# Altium schematic symbol library SCH.SCHLIB: 63 symbols (part 1 of 2)
Pins are listed as number, name and electrical type; pins without a type are passive.

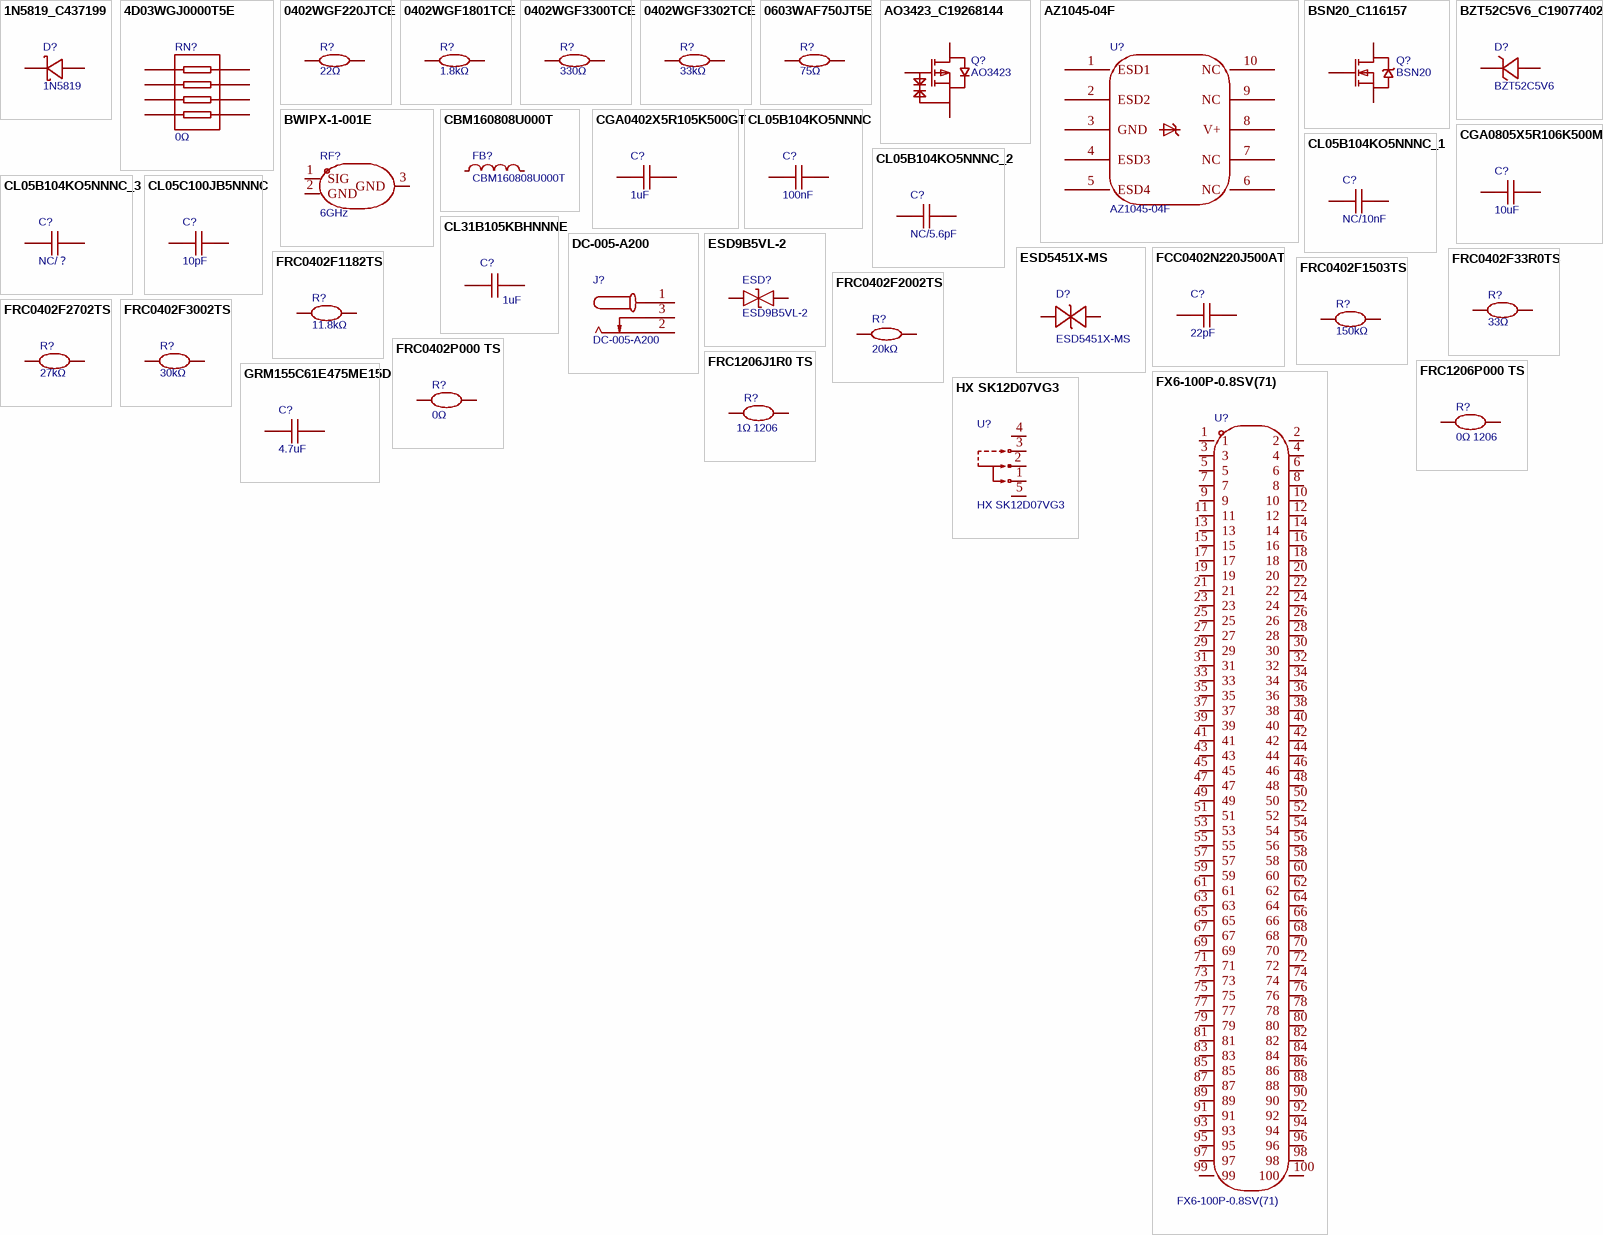
[diagram p0: symbols 1N5819_C437199 to HX SK12D07VG3]

## 1N5819_C437199
designator D?, comment 1N5819
正向压降(Vf):500mV@1A;直流反向耐压(Vr):40V;整流电流:1A;; Manufacturer: KEXIN(科信); Symbol: 1N5819_C437199; AddInBom: yes; ModelId: a2d22152f8d5421c8e96dbd56af7c345聨0819f05c4eef4c71ace90d822a990e87; ModelName: SMA_L4.4-W2.6-LS5.0-RD; ModelTransform: 204.724,98.425,0,0,0,0,0,0,0; Voltage - DC Reverse(Vr): 40V; Current - Rectified: 1A; Operating Junction Temperature Range: -60℃~+125℃; Non-Repetitive Peak Forward Surge Current: 40A; Device: 1N5819_C437199; LCSC Part Name: KEXIN(科信)原型号 SS14,后续变更为 1N5819，丝印不变。 电压:40V 电流:1A; SupplierPart: C437199; ManufacturerPart: 1N5819; Supplier Footprint: DO-214AC(SMA); JLCPCB Part Class: Extended Part; Datasheet: https://item.szlcsc.com/datasheet/1N5819/435098.html; Supplier: LCSC; ConvertToPcb: yes; FootprintName: SMA_L4.4-W2.6-LS5.0-RD; Voltage - Forward(Vf@If): 500mV@1A
footprint SMA_L4.4-W2.6-LS5.0-RD
pins: 1 C, 2 A

## 4D03WGJ0000T5E
designator RN?, comment 0Ω
电阻器数:4;阻值:0Ω;精度:±5%;单个元件功率:62.5mW;温度系数:±400ppm/℃;; Manufacturer: UNI-ROYAL(厚声); Symbol: 4D03WGJ0000T5E; AddInBom: yes; ModelId: edf39f9a2dca4b9a94267f442dd4f95a聨0819f05c4eef4c71ace90d822a990e87; ModelName: R0603-8P_L3.2-W1.6-H0.6; ModelTransform: 125.984,62.992,0,0,0,0,0,0,0; Number of Resistors: 4; Tolerance: ±5%; Power(Watts): 62.5mW; Device: 4D03WGJ0000T5E; LCSC Part Name: 0Ω ±5%; SupplierPart: C1952; ManufacturerPart: 4D03WGJ0000T5E; Supplier Footprint: 0603x4; JLCPCB Part Class: Extended Part; Datasheet: https://item.szlcsc.com/datasheet/4D03WGJ0000T5E/2304.html; Supplier: LCSC; ConvertToPcb: yes; FootprintName: RES-ARRAY-SMD_0603-8P-L3.2-W1.6-BL; Value: 0Ω; Temperature Coefficient: ±400ppm/℃; Number of Pins: 8
footprint RES-ARRAY-SMD_0603-8P-L3.2-W1.6-BL
pins: 1, 2, 3, 4, 5, 6, 7, 8

## 0402WGF220JTCE
designator R?, comment 22Ω
电阻类型:厚膜电阻;阻值:22Ω;精度:±1%;功率:62.5mW;最大工作电压:50V;温度系数:±100ppm/℃;; Manufacturer: UNI-ROYAL(厚声); Symbol: 0402WGF220JTCE; AddInBom: yes; ModelId: 98c88bc2b9094f218f3a3e30a7012738聨0819f05c4eef4c71ace90d822a990e87; ModelName: R0402_L1.0-W0.5-H0.4; ModelTransform: 39.37,19.685,0,0,0,0,0,0,0; Tolerance: ±1%; Power(Watts): 62.5mW; Overload Voltage (Max): 50V; Device: 0402WGF220JTCE; LCSC Part Name: 22Ω ±1% 62.5mW 厚膜电阻; SupplierPart: C25092; ManufacturerPart: 0402WGF220JTCE; Supplier Footprint: 0402; JLCPCB Part Class: Basic Part; Datasheet: https://atta.szlcsc.com/upload/public/pdf/source/20200306/C422600_1E6D84923E4A46A82E41ADD87F860B5C.pdf; Supplier: LCSC; ConvertToPcb: yes; FootprintName: R0402; Type: 厚膜电阻; Value: 22Ω; Temperature Coefficient: ±100ppm/℃; Operating Temperature Range: -55℃~+155℃
footprint R0402
pins: 1, 2

## 0402WGF1801TCE
designator R?, comment 1.8kΩ
电阻类型:厚膜电阻;阻值:1.8kΩ;精度:±1%;功率:62.5mW;工作电压:50V;温度系数:±100ppm/℃;; Manufacturer: UNI-ROYAL(厚声); Symbol: 0402WGF1801TCE; 3D Model: 98c88bc2b9094f218f3a3e30a7012738聨0819f05c4eef4c71ace90d822a990e87; 3D Model Transform: 39.37,19.685,0,0,0,0,0,0,0; Tolerance: ±1%; Power(Watts): 62.5mW; Voltage-Supply(Max): 50V; AddInBom: yes; ModelName: R0402_L1.0-W0.5-H0.4; Device: 0402WGF1801TCE; LCSC Part Name: 1.8kΩ ±1% 62.5mW 厚膜电阻; Supplier Part: C25871; Manufacturer Part: 0402WGF1801TCE; Supplier Footprint: 0402; JLCPCB Part Class: Extended Part; Datasheet: https://item.szlcsc.com/datasheet/0402WGF1801TCE/26614.html; Supplier: LCSC; Type: 厚膜电阻; Value: 1.8kΩ; Temperature Coefficient: ±100ppm/℃; Operating Temperature: -55℃~+155℃; ConvertToPcb: yes; FootprintName: R0402
footprint R0402
3D model R0402_L1.0-W0.5-H0.4
pins: 1, 2

## 0402WGF3300TCE
designator R?, comment 330Ω
电阻类型:厚膜电阻;阻值:330Ω;精度:±1%;功率:62.5mW;工作电压:50V;温度系数:±100ppm/℃;; Manufacturer: UNI-ROYAL(厚声); Symbol: 0402WGF3300TCE; 3D Model: 98c88bc2b9094f218f3a3e30a7012738聨0819f05c4eef4c71ace90d822a990e87; 3D Model Transform: 39.37,19.685,0,0,0,0,0,0,0; Tolerance: ±1%; Power(Watts): 62.5mW; Voltage-Supply(Max): 50V; AddInBom: yes; ModelName: R0402_L1.0-W0.5-H0.4; Device: 0402WGF3300TCE; LCSC Part Name: 330Ω ±1% 62.5mW 厚膜电阻; Supplier Part: C25104; Manufacturer Part: 0402WGF3300TCE; Supplier Footprint: 0402; JLCPCB Part Class: Basic Part; Datasheet: https://item.szlcsc.com/datasheet/0402WGF3300TCE/25847.html; Supplier: LCSC; Type: 厚膜电阻; Value: 330Ω; Temperature Coefficient: ±100ppm/℃; Operating Temperature: -55℃~+155℃; ConvertToPcb: yes; FootprintName: R0402
footprint R0402
3D model R0402_L1.0-W0.5-H0.4
pins: 1, 2

## 0402WGF3302TCE
designator R?, comment 33kΩ
电阻类型:厚膜电阻;阻值:33kΩ;精度:±1%;功率:62.5mW;最大工作电压:50V;温度系数:±100ppm/℃;; Manufacturer: UNI-ROYAL(厚声); Symbol: 0402WGF3302TCE; 3D Model: 98c88bc2b9094f218f3a3e30a7012738聨0819f05c4eef4c71ace90d822a990e87; 3D Model Transform: 39.37,19.685,0,0,0,0,0,0,0; Tolerance: ±1%; Power(Watts): 62.5mW; Overload Voltage (Max): 50V; AddInBom: yes; ModelName: R0402_L1.0-W0.5-H0.4; Device: 0402WGF3302TCE; LCSC Part Name: 33kΩ ±1% 62.5mW 厚膜电阻; Supplier Part: C25779; Manufacturer Part: 0402WGF3302TCE; Supplier Footprint: 0402; JLCPCB Part Class: Basic Part; Datasheet: https://atta.szlcsc.com/upload/public/pdf/source/20200306/C422600_1E6D84923E4A46A82E41ADD87F860B5C.pdf; Supplier: LCSC; Type: 厚膜电阻; Value: 33kΩ; Temperature Coefficient: ±100ppm/℃; Operating Temperature Range: -55℃~+155℃; ConvertToPcb: yes; FootprintName: R0402
footprint R0402
3D model R0402_L1.0-W0.5-H0.4
pins: 1, 2

## 0603WAF750JT5E
designator R?, comment 75Ω
电阻类型:厚膜电阻;阻值:75Ω;精度:±1%;功率:100mW;工作电压:75V;温度系数:±100ppm/℃;; Manufacturer: UNI-ROYAL(厚声); Symbol: 0603WAF750JT5E; 3D Model: fc143cca1e79419f9cd78b61e9279f08聨0819f05c4eef4c71ace90d822a990e87; 3D Model Transform: 31.8897,63.7794,0,90,0,0,0,0,0; Tolerance: ±1%; Power(Watts): 100mW; Voltage-Supply(Max): 75V; AddInBom: yes; ModelName: R0603; Device: 0603WAF750JT5E; LCSC Part Name: 75Ω ±1% 100mW 厚膜电阻; Supplier Part: C4275; Manufacturer Part: 0603WAF750JT5E; Supplier Footprint: 0603; JLCPCB Part Class: Basic Part; Datasheet: https://item.szlcsc.com/datasheet/0603WAF750JT5E/4682.html; Supplier: LCSC; Type: 厚膜电阻; Value: 75Ω; Temperature Coefficient: ±100ppm/℃; Operating Temperature: -55℃~+155℃; ConvertToPcb: yes; FootprintName: R0603
footprint R0603
3D model R0603
pins: 1, 2

## AO3423_C19268144
designator Q?, comment AO3423
漏源电压(Vdss):20V;连续漏极电流(Id):3A;导通电阻(RDS(on)@Vgs,Id):125mΩ@2.5V,2A;功率(Pd):1.55W;阈值电压(Vgs(th)@Id):1.1V@3A;; Manufacturer: TECH PUBLIC(台舟); Symbol: AO3423_C19268144; AddInBom: yes; ModelId: c62791f0466c4ae2a892c056b845b0ca聨0819f05c4eef4c71ace90d822a990e87; ModelName: SOT-23-3P_L2.9-W1.3-H1.0-LS2.4-P0.95; ModelTransform: 98.425,114.173,0,180,0,0,0.0005,-0.0005,0; Drain Source Voltage (Vdss): 20V; Continuous Drain Current (Id): 3A; Power Dissipation (Pd): 1.55W; Input Capacitance (Ciss@Vds): 520pF@16V; Reverse Transfer Capacitance (Crss@Vds): 80pF@16V; Device: AO3423_C19268144; LCSC Part Name: 耐压:20V 电流:3A; SupplierPart: C19268144; ManufacturerPart: AO3423; Supplier Footprint: SOT-23; JLCPCB Part Class: Extended Part; Datasheet: https://atta.szlcsc.com/upload/public/pdf/source/20231201/DEC71D908761248026A69CF2D48D0084.pdf; Supplier: LCSC; ConvertToPcb: yes; FootprintName: SOT-23-3_L2.9-W1.3-P1.90-LS2.4-BR-3; Drain Source On Resistance (RDS(on)@Vgs,Id): 125mΩ@2.5V,2A; Gate Threshold Voltage (Vgs(th)@Id): 1.1V@3A; Operating Temperature: -55℃~+150℃
footprint SOT-23-3_L2.9-W1.3-P1.90-LS2.4-BR-3
pins: 1 G, 2 S, 3 D

## AZ1045-04F
designator U?
Relevance: []; componentDisplayMode: -1; AddInBom: yes; OriginFootprint: DFN-10_2r50x1r00-H0r53-P0r50_B; Symbol: AZ1045-04F; Device: AZ1045-04F; FootprintName: DFN2510-10_L2.5-W1.0-P0.50-BL; ConvertToPcb: yes
footprint DFN2510-10_L2.5-W1.0-P0.50-BL
pins: 1 ESD1, 2 ESD2, 3 GND, 4 ESD3, 5 ESD4, 6 NC, 7 NC, 8 V+, 9 NC, 10 NC

## BSN20_C116157
designator Q?, comment BSN20
数量:1个N沟道;漏源电压(Vdss):50V;连续漏极电流(Id):100mA;导通电阻(RDS(on)):10Ω@2.75V,0.2A;耗散功率(Pd):-;阈值电压(Vgs(th)):1.5V@250uA;; Manufacturer: SHIKUES(时科); Device: BSN20_C116157; 3D Model: 89cb27a44ab2466697082bb9fd73a7d0聨0819f05c4eef4c71ace90d822a990e87; 3D Model Transform: 114.173,110.236,0,90,0,0,0,0,0; Number: 1个N沟道; Drain to Source Voltage: 50V; Current - Continuous Drain(Id): 100mA; Input Capacitance(Ciss): 40pF; Reverse Transfer Capacitance (Crss@Vds): 10pF; Type: N沟道; Output Capacitance(Coss): 15pF; AddInBom: yes; ModelName: SOT-23-3L_L2.9-W1.6-H1.1-LS2.8-P0.95; Symbol: BSN20; LCSC Part Name: 1个N沟道 耐压:50V 电流:0.1A; Supplier Part: C116157; Manufacturer Part: BSN20; Supplier Footprint: SOT-23; JLCPCB Part Class: Extended Part; Datasheet: https://item.szlcsc.com/datasheet/BSN20/117410.html; Supplier: LCSC; RDS(on): 10Ω@2.75V,0.2A; Pd - Power Dissipation: -; Gate Threshold Voltage (Vgs(th)): 1.5V@250uA; ConvertToPcb: yes; FootprintName: SOT-23-3_L2.9-W1.6-P1.90-LS2.8-BR
footprint SOT-23-3_L2.9-W1.6-P1.90-LS2.8-BR
3D model SOT-23-3L_L2.9-W1.6-H1.1-LS2.8-P0.95
pins: 1 G, 2 S, 3 D

## BWIPX-1-001E
designator RF?, comment 6GHz
连接器类型:板端;接口类型:内针;端口数量:1;接口直径:2mm;接口长度/高度:1.25mm;频率:6GHz;射频系列:IPEX;阻抗:50Ω;样式:-;工作温度:-40℃~+85℃;; Manufacturer: BAT WIRELESS(蝙蝠无线); Symbol: BWIPX-1-001E; 3D Model: e9910d1cc3f644ef905f39c3184653d7聨0819f05c4eef4c71ace90d822a990e87; 3D Model Transform: 122.047,118.11,0,180,0,0,29.921,0,0; Connector Type: 板端; Interface: 内针; Number of Ports: 1; Interface Diameter: 2mm; Interface Length/Height: 1.25mm; RF Series: IPEX; Impedance: 50Ω; AddInBom: yes; ModelName: IPEX-SMD_BWIPX-1-001E; Device: BWIPX-1-001E; LCSC Part Name: 内针 IPEX; Supplier Part: C496552; Manufacturer Part: BWIPX-1-001E; Supplier Footprint: SMD; JLCPCB Part Class: Extended Part; Datasheet: https://item.szlcsc.com/datasheet/BWIPX-1-001E/508501.html; Supplier: LCSC; Value: 6GHz; Style: -; Operating Temperature Range: -40℃~+85℃; ConvertToPcb: yes; FootprintName: IPEX-SMD_BWIPX-1-001E
footprint IPEX-SMD_BWIPX-1-001E
3D model IPEX-SMD_BWIPX-1-001E
pins: 1 SIG, 2 GND, 3 GND

## BZT52C5V6_C19077402
designator D?, comment BZT52C5V6
二极管配置:独立式;稳压值(标称值):5.6V;稳压值(范围):5.32V~5.88V;耗散功率(Pd):350mW;; Manufacturer: R+O(宏嘉诚); Symbol: BZT52C5V6_C19077402; AddInBom: yes; ModelId: ad7e39f9e5534b3c96ffdc5532ebb493聨0819f05c4eef4c71ace90d822a990e87; ModelName: SOD-123_L2.7-W1.6-H1.4-LS3.7; ModelTransform: 146.026,62.992,0,180,0,0,0.0005,0,0; Diode Configuration: 独立式; Zener Voltage(Nom): 5.6V; Reverse Leakage Current (Ir): 1uA@2.0V; Pd - Power Dissipation: 350mW; Impedance(Zzt): 40Ω; Impedance(Zzk): 400Ω; Operating Junction Temperature Range: -55℃~+150℃; Device: BZT52C5V6_C19077402; LCSC Part Name: 表面贴装齐纳二极管; SupplierPart: C19077402; ManufacturerPart: BZT52C5V6; Supplier Footprint: SOD-123; JLCPCB Part Class: Extended Part; Datasheet: https://item.szlcsc.com/datasheet/BZT52C5V6/20275487.html; Supplier: LCSC; ConvertToPcb: yes; FootprintName: SOD-123_L2.7-W1.6-LS3.7-RD; Zener Voltage(Range): 5.32V~5.88V
footprint SOD-123_L2.7-W1.6-LS3.7-RD
pins: 1 K, 2 A

## CBM160808U000T
designator FB?
阻抗@频率:0Ω@100MHz;直流电阻(DCR):10mΩ;; Manufacturer: FH(风华); AddInBom: yes; ModelId: 2bc5ec593d464d6ba9807aec0b5673c2聨0819f05c4eef4c71ace90d822a990e87; ModelName: L0603_L1.6-W0.8-H0.5_BEAD; ModelTransform: 62.992,31.496,0,180,0,0,0.094,0.629,0; DC Resistance(DCR): 10mΩ; Current Rating: 6A; Number of Circuits: 1; Symbol: CBM160808U000T; Device: CBM160808U000T; LCSC Part Name: 单路 0603磁珠 阻抗0Ω@100MHz; SupplierPart: C394410; ManufacturerPart: CBM160808U000T; Supplier Footprint: 0603; JLCPCB Part Class: Extended Part; Datasheet: https://item.szlcsc.com/datasheet/CBM160808U000T/373685.html; Supplier: LCSC; ConvertToPcb: yes; FootprintName: L0603; Impedance @ Frequency: 0Ω@100MHz; Operating Temperature: -55℃~+125℃
footprint L0603
pins: 1, 2

## CGA0402X5R105K500GT
designator C?, comment 1uF
容值:1uF;精度:±10%;额定电压:50V;温度系数:X5R;; Manufacturer: HRE(芯声); Symbol: CGA0402X5R105K500GT; AddInBom: yes; ModelId: 36a51122f27c49738f86b3bfa98863e0聨0819f05c4eef4c71ace90d822a990e87; ModelName: C0402_L1.0-W0.5-H0.5; ModelTransform: 39.37,19.685,0,0,0,0,0,0,0; Tolerance: ±10%; Voltage Rating: 50V; Temperature Coefficient: X5R; Device: CGA0402X5R105K500GT; LCSC Part Name: 1uF ±10% 50V; SupplierPart: C6119811; ManufacturerPart: CGA0402X5R105K500GT; Supplier Footprint: 0402; JLCPCB Part Class: Extended Part; Datasheet: https://item.szlcsc.com/datasheet/CGA0402X5R105K500GT/7062517.html; Supplier: LCSC; ConvertToPcb: yes; FootprintName: C0402; Value: 1uF
footprint C0402
pins: 1, 2

## CGA0805X5R106K500MT
designator C?, comment 10uF
容值:10uF;精度:±10%;额定电压:50V;温度系数:X5R;; Manufacturer: HRE(芯声); Symbol: CGA0805X5R106K500MT; AddInBom: yes; ModelId: 1ba041120af144c991958decab20d241聨0819f05c4eef4c71ace90d822a990e87; ModelName: C0805_L2.0-W1.3-H1.3; ModelTransform: 78.74,51.181,0,0,0,0,0,0.0005,0; Tolerance: ±10%; Voltage Rating: 50V; Temperature Coefficient: X5R; Device: CGA0805X5R106K500MT; LCSC Part Name: 10uF ±10% 50V; SupplierPart: C6119889; ManufacturerPart: CGA0805X5R106K500MT; Supplier Footprint: 0805; JLCPCB Part Class: Extended Part; Datasheet: https://item.szlcsc.com/datasheet/CGA0805X5R106K500MT/7062595.html; Supplier: LCSC; ConvertToPcb: yes; FootprintName: C0805; Value: 10uF
footprint C0805
pins: 1, 2

## CL05B104KO5NNNC
designator C?, comment 100nF
容值:100nF;精度:±10%;额定电压:16V;温度系数:X7R;; Manufacturer: SAMSUNG(三星); Symbol: CL05B104KO5NNNC; AddInBom: yes; ModelId: 36a51122f27c49738f86b3bfa98863e0聨0819f05c4eef4c71ace90d822a990e87; ModelName: C0402_L1.0-W0.5-H0.5; ModelTransform: 39.37,19.685,0,0,0,0,0,0,0; Tolerance: ±10%; Voltage Rating: 16V; Temperature Coefficient: X7R; Device: CL05B104KO5NNNC; LCSC Part Name: 100nF ±10% 16V; SupplierPart: C1525; ManufacturerPart: CL05B104KO5NNNC; Supplier Footprint: 0402; JLCPCB Part Class: Basic Part; Datasheet: https://item.szlcsc.com/datasheet/CL05B104KO5NNNC/1877.html; Supplier: LCSC; ConvertToPcb: yes; FootprintName: C0402; Value: 100nF
footprint C0402
pins: 1, 2

## CL05B104KO5NNNC_1
designator C?, comment NC/10nF
容值:100nF;精度:±10%;额定电压:16V;温度系数:X7R;; Manufacturer: SAMSUNG(三星); Symbol: CL05B104KO5NNNC; AddInBom: yes; ModelId: 36a51122f27c49738f86b3bfa98863e0聨0819f05c4eef4c71ace90d822a990e87; ModelName: C0402_L1.0-W0.5-H0.5; ModelTransform: 39.37,19.685,0,0,0,0,0,0,0; Tolerance: ±10%; Voltage Rating: 16V; Temperature Coefficient: X7R; Device: CL05B104KO5NNNC; Value: NC/10nF; LCSC Part Name: 100nF ±10% 16V; ManufacturerPart: CL05B104KO5NNNC; Supplier Footprint: 0402; JLCPCB Part Class: Basic Part; Datasheet: https://item.szlcsc.com/datasheet/CL05B104KO5NNNC/1877.html; Supplier: LCSC; ConvertToPcb: yes; FootprintName: C0402
footprint C0402
pins: 1, 2

## CL05B104KO5NNNC_2
designator C?, comment NC/5.6pF
容值:100nF;精度:±10%;额定电压:16V;温度系数:X7R;; Manufacturer: SAMSUNG(三星); Symbol: CL05B104KO5NNNC; AddInBom: yes; ModelId: 36a51122f27c49738f86b3bfa98863e0聨0819f05c4eef4c71ace90d822a990e87; ModelName: C0402_L1.0-W0.5-H0.5; ModelTransform: 39.37,19.685,0,0,0,0,0,0,0; Tolerance: ±10%; Voltage Rating: 16V; Temperature Coefficient: X7R; Device: CL05B104KO5NNNC; Value: NC/5.6pF; LCSC Part Name: 100nF ±10% 16V; ManufacturerPart: CL05B104KO5NNNC; Supplier Footprint: 0402; JLCPCB Part Class: Basic Part; Datasheet: https://item.szlcsc.com/datasheet/CL05B104KO5NNNC/1877.html; Supplier: LCSC; ConvertToPcb: yes; FootprintName: C0402
footprint C0402
pins: 1, 2

## CL05B104KO5NNNC_3
designator C?, comment NC/？
容值:100nF;精度:±10%;额定电压:16V;温度系数:X7R;; Manufacturer: SAMSUNG(三星); Symbol: CL05B104KO5NNNC; 3D Model: 36a51122f27c49738f86b3bfa98863e0聨0819f05c4eef4c71ace90d822a990e87; 3D Model Transform: 39.37,19.685,0,0,0,0,0,0,0; Tolerance: ±10%; Voltage Rating: 16V; Temperature Coefficient: X7R; AddInBom: yes; ModelName: C0402_L1.0-W0.5-H0.5; Device: CL05B104KO5NNNC; Value: NC/？; LCSC Part Name: 100nF ±10% 16V; Manufacturer Part: CL05B104KO5NNNC; Supplier Footprint: 0402; JLCPCB Part Class: Basic Part; Datasheet: https://item.szlcsc.com/datasheet/CL05B104KO5NNNC/1877.html; Supplier: LCSC; ConvertToPcb: yes; FootprintName: C0402
footprint C0402
3D model C0402_L1.0-W0.5-H0.5
pins: 1, 2

## CL05C100JB5NNNC
designator C?, comment 10pF
容值:10pF;精度:±5%;额定电压:50V;温度系数:C0G;; Manufacturer: SAMSUNG(三星); Symbol: CL05C100JB5NNNC; 3D Model: 36a51122f27c49738f86b3bfa98863e0聨0819f05c4eef4c71ace90d822a990e87; 3D Model Transform: 39.37,19.685,0,0,0,0,0,0,0; Tolerance: ±5%; Voltage Rating: 50V; Temperature Coefficient: C0G; AddInBom: yes; ModelName: C0402_L1.0-W0.5-H0.5; Device: CL05C100JB5NNNC; LCSC Part Name: 10pF ±5% 50V; Supplier Part: C32949; Manufacturer Part: CL05C100JB5NNNC; Supplier Footprint: 0402; JLCPCB Part Class: Basic Part; Datasheet: https://item.szlcsc.com/datasheet/CL05C100JB5NNNC/33914.html; Supplier: LCSC; Value: 10pF; ConvertToPcb: yes; FootprintName: C0402
footprint C0402
3D model C0402_L1.0-W0.5-H0.5
pins: 1, 2

## CL31B105KBHNNNE
designator C?, comment 1uF
容值:1uF;精度:±10%;额定电压:50V;温度系数:X7R;; Manufacturer: SAMSUNG(三星); Symbol: CL31B105KBHNNNE; AddInBom: yes; ModelId: e4be705b945545a48e666415e3682bd8聨0819f05c4eef4c71ace90d822a990e87; ModelName: C1206_L3.2-W1.6-H1.3; ModelTransform: 125.984,62.992,0,0,0,0,0,0,0; Tolerance: ±10%; Voltage Rating: 50V; Temperature Coefficient: X7R; Device: CL31B105KBHNNNE; LCSC Part Name: 1uF ±10% 50V; SupplierPart: C1848; ManufacturerPart: CL31B105KBHNNNE; Supplier Footprint: 1206; JLCPCB Part Class: Basic Part; Datasheet: https://item.szlcsc.com/datasheet/CL31B105KBHNNNE/2200.html; Supplier: LCSC; ConvertToPcb: yes; FootprintName: C1206; Value: 1uF
footprint C1206
pins: 1, 2

## DC-005-A200
designator J?
连接器类型:DC电源插座;安装方式:弯插;触点内径:2mm;触点外径:6.4mm;额定电流:3A;额定电压:30V;工作温度:-20℃~+70℃;; Manufacturer: XUNPU(讯普); AddInBom: yes; ModelId: 1321cdbe1dc84555a9684967491c8670聨0819f05c4eef4c71ace90d822a990e87; ModelName: DC-IN-TH_DC-005-A200; ModelTransform: 553.149,368.14887,0,0,0,0,-137.795,85.63,-161.417; Connector Type: DC电源插座; Inside Contact Diameter: 2mm; Outside Contact Diameter: 6.4mm; Current Rating: 3A; Voltage Rating (Max): 30V; Symbol: DC-005-A200; Device: DC-005-A200; LCSC Part Name: DC电源插座 内径:2mm 外径:6.4mm; SupplierPart: C720557; ManufacturerPart: DC-005-A200; Supplier Footprint: 插件; JLCPCB Part Class: Extended Part; Datasheet: https://item.szlcsc.com/datasheet/DC-005-A200/763564.html; Supplier: LCSC; ConvertToPcb: yes; FootprintName: DC-IN-TH_DC-005-A200; Mounting Type: 弯插; Operating Temperature: -20℃~+70℃
footprint DC-IN-TH_DC-005-A200
pins: 1, 2, 3

## ESD9B5VL-2
designator ESD?
反向截止电压(Vrwm):5V;钳位电压:12.5V;峰值脉冲功率(Ppp):80W@8/20us;击穿电压:6V;; Manufacturer: Leiditech(雷卯电子); AddInBom: yes; ModelId: 2bdbcca3b35b49c5a8ae725a08658930聨0819f05c4eef4c71ace90d822a990e87; ModelName: DFN1006-2L-BI; ModelTransform: 40.1574,24.4094,0,0,0,0,0,0,0; Reverse Stand-Off Voltage (Vrwm): 5V; Clamping Voltage: 12.5V; Voltage - Breakdown: 6V; Reverse Leakage Current (Ir): 500nA; level of protection: IEC 61000-4-5；IEC 61000-4-2; Junction Capacitance: 15pF; Symbol: ESD9B5VL-2; Device: ESD9B5VL-2; Manufacturer Part: ESD9B5VL-2; LCSC Part Name: ESD 5V截止; SupplierPart: C5144823; Supplier Footprint: DFN1006-2; JLCPCB Part Class: Extended Part; Datasheet: https://item.szlcsc.com/datasheet/ESD9B5VL-2/5766708.html; Supplier: LCSC; ConvertToPcb: yes; FootprintName: DFN1006-2L-BI; Peak Pulse Power Dissipation (Ppp): 80W@8/20us; Type: ESD
footprint DFN1006-2L-BI
pins: 1, 2

## ESD5451X-MS
designator D?
反向截止电压(Vrwm):5V;峰值脉冲电流(Ipp):8A;击穿电压:5.6V;; Manufacturer: MSKSEMI(美森科); 3D Model: 2bdbcca3b35b49c5a8ae725a08658930聨0819f05c4eef4c71ace90d822a990e87; 3D Model Transform: 40.1574,24.4094,0,0,0,0,0,0,0; Reverse Stand-Off Voltage (Vrwm): 5V; Peak Pulse Current (Ipp): 8A; Breakdown Voltage: 5.6V; Type: ESD; AddInBom: yes; ModelName: DFN1006-2L-BI; Symbol: ESD5451X-MS; Device: ESD5451X-MS; LCSC Part Name: 丝印C; Supplier Part: C7379960; Manufacturer Part: ESD5451X-MS; Supplier Footprint: DFN1006-2L; JLCPCB Part Class: Extended Part; Datasheet: https://atta.szlcsc.com/upload/public/pdf/source/20230621/69F6BD434835CFDE06A31A18B4149936.pdf; Supplier: LCSC; ConvertToPcb: yes; FootprintName: DFN1006-2L-BI
footprint DFN1006-2L-BI
3D model DFN1006-2L-BI
pins: 1, 2

## FCC0402N220J500AT
designator C?, comment 22pF
容值:22pF;精度:±5%;额定电压:50V;温度系数:C0G;; Manufacturer: FOJAN(富捷); Symbol: FCC0402N220J500AT; 3D Model: 36a51122f27c49738f86b3bfa98863e0聨0819f05c4eef4c71ace90d822a990e87; 3D Model Transform: 39.37,19.685,0,0,0,0,0,0,0; Tolerance: ±5%; Voltage Rating: 50V; Temperature Coefficient: C0G; AddInBom: yes; ModelName: C0402_L1.0-W0.5-H0.5; Device: FCC0402N220J500AT; LCSC Part Name: 22pF ±5% 50V; Supplier Part: C5137569; Manufacturer Part: FCC0402N220J500AT; Supplier Footprint: 0402; JLCPCB Part Class: Extended Part; Datasheet: https://item.szlcsc.com/datasheet/FCC0402N220J500AT/5747021.html; Supplier: LCSC; Value: 22pF; ConvertToPcb: yes; FootprintName: C0402
footprint C0402
3D model C0402_L1.0-W0.5-H0.5
pins: 1, 2

## FRC0402F33R0TS
designator R?, comment 33Ω
电阻类型:厚膜电阻;阻值:33Ω;精度:±1%;功率:62.5mW;工作电压:50V;温度系数:±100ppm/℃;; Manufacturer: FOJAN(富捷); Symbol: FRC0402F33R0TS; AddInBom: yes; ModelId: 98c88bc2b9094f218f3a3e30a7012738聨0819f05c4eef4c71ace90d822a990e87; ModelName: R0402_L1.0-W0.5-H0.4; ModelTransform: 39.37,19.685,0,0,0,0,0,0,0; Tolerance: ±1%; Power(Watts): 62.5mW; Voltage-Supply(Max): 50V; Device: FRC0402F33R0TS; LCSC Part Name: 33Ω ±1% 62.5mW 厚膜电阻; SupplierPart: C2906868; ManufacturerPart: FRC0402F33R0TS; Supplier Footprint: 0402; JLCPCB Part Class: Extended Part; Supplier: LCSC; ConvertToPcb: yes; FootprintName: R0402; Type: 厚膜电阻; Value: 33Ω; Temperature Coefficient: ±100ppm/℃; Operating Temperature: -55℃~+155℃
footprint R0402
pins: 1, 2

## FRC0402F1182TS
designator R?, comment 11.8kΩ
电阻类型:厚膜电阻;阻值:11.8kΩ;精度:±1%;功率:62.5mW;工作电压:50V;温度系数:±100ppm/℃;; Manufacturer: FOJAN(富捷); Symbol: FRC0402F1182TS; 3D Model: 98c88bc2b9094f218f3a3e30a7012738聨0819f05c4eef4c71ace90d822a990e87; 3D Model Transform: 39.37,19.685,0,0,0,0,0,0,0; Tolerance: ±1%; Power(Watts): 62.5mW; Voltage-Supply(Max): 50V; AddInBom: yes; ModelName: R0402_L1.0-W0.5-H0.4; Device: FRC0402F1182TS; LCSC Part Name: 11.8kΩ ±1% 62.5mW 厚膜电阻; Supplier Part: C2929934; Manufacturer Part: FRC0402F1182TS; Supplier Footprint: 0402; JLCPCB Part Class: Extended Part; Supplier: LCSC; Type: 厚膜电阻; Value: 11.8kΩ; Temperature Coefficient: ±100ppm/℃; Operating Temperature: -55℃~+155℃; ConvertToPcb: yes; FootprintName: R0402
footprint R0402
3D model R0402_L1.0-W0.5-H0.4
pins: 1, 2

## FRC0402F1503TS
designator R?, comment 150kΩ
电阻类型:厚膜电阻;阻值:150kΩ;精度:±1%;功率:62.5mW;工作电压:50V;温度系数:±100ppm/℃;; Manufacturer: FOJAN(富捷); Symbol: FRC0402F1503TS; 3D Model: 98c88bc2b9094f218f3a3e30a7012738聨0819f05c4eef4c71ace90d822a990e87; 3D Model Transform: 39.37,19.685,0,0,0,0,0,0,0; Tolerance: ±1%; Power(Watts): 62.5mW; Voltage-Supply(Max): 50V; AddInBom: yes; ModelName: R0402_L1.0-W0.5-H0.4; Device: FRC0402F1503TS; LCSC Part Name: 150kΩ ±1% 62.5mW 厚膜电阻; Supplier Part: C2909320; Manufacturer Part: FRC0402F1503TS; Supplier Footprint: 0402; JLCPCB Part Class: Extended Part; Supplier: LCSC; Type: 厚膜电阻; Value: 150kΩ; Temperature Coefficient: ±100ppm/℃; Operating Temperature: -55℃~+155℃; ConvertToPcb: yes; FootprintName: R0402
footprint R0402
3D model R0402_L1.0-W0.5-H0.4
pins: 1, 2

## FRC0402F2002TS
designator R?, comment 20kΩ
电阻类型:厚膜电阻;阻值:20kΩ;精度:±1%;功率:62.5mW;工作电压:50V;温度系数:±100ppm/℃;; Manufacturer: FOJAN(富捷); Symbol: FRC0402F2002TS; 3D Model: 98c88bc2b9094f218f3a3e30a7012738聨0819f05c4eef4c71ace90d822a990e87; 3D Model Transform: 39.37,19.685,0,0,0,0,0,0,0; Tolerance: ±1%; Power(Watts): 62.5mW; Voltage-Supply(Max): 50V; AddInBom: yes; ModelName: R0402_L1.0-W0.5-H0.4; Device: FRC0402F2002TS; LCSC Part Name: 20kΩ ±1% 62.5mW 厚膜电阻; Supplier Part: C2906867; Manufacturer Part: FRC0402F2002TS; Supplier Footprint: 0402; JLCPCB Part Class: Extended Part; Datasheet: https://item.szlcsc.com/datasheet/FRC0402F2002TS/3180380.html; Supplier: LCSC; Type: 厚膜电阻; Value: 20kΩ; Temperature Coefficient: ±100ppm/℃; Operating Temperature: -55℃~+155℃; ConvertToPcb: yes; FootprintName: R0402
footprint R0402
3D model R0402_L1.0-W0.5-H0.4
pins: 1, 2

## FRC0402F2702TS
designator R?, comment 27kΩ
电阻类型:厚膜电阻;阻值:27kΩ;精度:±1%;功率:62.5mW;工作电压:50V;温度系数:±100ppm/℃;; Manufacturer: FOJAN(富捷); Symbol: FRC0402F2702TS; 3D Model: 98c88bc2b9094f218f3a3e30a7012738聨0819f05c4eef4c71ace90d822a990e87; 3D Model Transform: 39.37,19.685,0,0,0,0,0,0,0; Tolerance: ±1%; Power(Watts): 62.5mW; Voltage-Supply(Max): 50V; AddInBom: yes; ModelName: R0402_L1.0-W0.5-H0.4; Device: FRC0402F2702TS; LCSC Part Name: 27kΩ ±1% 62.5mW 厚膜电阻; Supplier Part: C2933084; Manufacturer Part: FRC0402F2702TS; Supplier Footprint: 0402; JLCPCB Part Class: Extended Part; Supplier: LCSC; Type: 厚膜电阻; Value: 27kΩ; Temperature Coefficient: ±100ppm/℃; Operating Temperature: -55℃~+155℃; ConvertToPcb: yes; FootprintName: R0402
footprint R0402
3D model R0402_L1.0-W0.5-H0.4
pins: 1, 2

## FRC0402F3002TS
designator R?, comment 30kΩ
电阻类型:厚膜电阻;阻值:30kΩ;精度:±1%;功率:62.5mW;工作电压:50V;温度系数:±100ppm/℃;; Manufacturer: FOJAN(富捷); Symbol: FRC0402F3002TS; AddInBom: yes; ModelId: 98c88bc2b9094f218f3a3e30a7012738聨0819f05c4eef4c71ace90d822a990e87; ModelName: R0402_L1.0-W0.5-H0.4; ModelTransform: 39.37,19.685,0,0,0,0,0,0,0; Tolerance: ±1%; Power(Watts): 62.5mW; Voltage-Supply(Max): 50V; Device: FRC0402F3002TS; LCSC Part Name: 30kΩ ±1% 62.5mW 厚膜电阻; SupplierPart: C2909347; ManufacturerPart: FRC0402F3002TS; Supplier Footprint: 0402; JLCPCB Part Class: Extended Part; Supplier: LCSC; ConvertToPcb: yes; FootprintName: R0402; Type: 厚膜电阻; Value: 30kΩ; Temperature Coefficient: ±100ppm/℃; Operating Temperature: -55℃~+155℃
footprint R0402
pins: 1, 2

## FRC0402P000 TS
designator R?, comment 0Ω
电阻类型:厚膜电阻;阻值:0Ω;精度:±5%;功率:62.5mW;工作电压:50V;; Manufacturer: FOJAN(富捷); Symbol: FRC0402P000 TS; AddInBom: yes; ModelId: 98c88bc2b9094f218f3a3e30a7012738聨0819f05c4eef4c71ace90d822a990e87; ModelName: R0402_L1.0-W0.5-H0.4; ModelTransform: 39.37,19.685,0,0,0,0,0,0,0; Tolerance: ±5%; Power(Watts): 62.5mW; Voltage-Supply(Max): 50V; Device: FRC0402P000 TS; LCSC Part Name: 0Ω ±5% 62.5mW 厚膜电阻; SupplierPart: C2906877; ManufacturerPart: FRC0402P000 TS; Supplier Footprint: 0402; JLCPCB Part Class: Extended Part; Supplier: LCSC; ConvertToPcb: yes; FootprintName: R0402; Type: 厚膜电阻; Value: 0Ω; Operating Temperature: -55℃~+155℃
footprint R0402
pins: 1, 2

## FRC1206J1R0 TS
designator R?, comment 1Ω 1206
电阻类型:厚膜电阻;阻值:1Ω;精度:±5%;功率:250mW;工作电压:200V;温度系数:±200ppm/℃;; Manufacturer: FOJAN(富捷); Symbol: FRC1206J1R0 TS; AddInBom: yes; ModelId: 89a1f13db2384da588040e0b3c55bf66聨0819f05c4eef4c71ace90d822a990e87; ModelName: R1206_L3.2-W1.6-H0.6; ModelTransform: 125.984,62.992,0,0,0,0,0,0,0; Tolerance: ±5%; Power(Watts): 250mW; Voltage-Supply(Max): 200V; Device: FRC1206J1R0 TS; Value: 1Ω 1206; LCSC Part Name: 1Ω ±5% 250mW 厚膜电阻; ManufacturerPart: FRC1206J1R0 TS; Supplier Footprint: 1206; JLCPCB Part Class: Extended Part; Datasheet: https://item.szlcsc.com/datasheet/FRC1206J1R0%2520TS/3180955.html; Supplier: LCSC; ConvertToPcb: yes; FootprintName: R1206; Type: 厚膜电阻; Temperature Coefficient: ±200ppm/℃; Operating Temperature: -55℃~+155℃
footprint R1206
pins: 1, 2

## FRC1206P000 TS
designator R?, comment 0Ω 1206
电阻类型:厚膜电阻;阻值:0Ω;精度:±5%;功率:250mW;工作电压:200V;; Manufacturer: FOJAN(富捷); Symbol: FRC1206P000 TS; AddInBom: yes; ModelId: 89a1f13db2384da588040e0b3c55bf66聨0819f05c4eef4c71ace90d822a990e87; ModelName: R1206_L3.2-W1.6-H0.6; ModelTransform: 125.984,62.992,0,0,0,0,0,0,0; Tolerance: ±5%; Power(Watts): 250mW; Voltage-Supply(Max): 200V; Device: FRC1206P000 TS; Value: 0Ω 1206; LCSC Part Name: 0Ω ±5% 250mW 厚膜电阻; ManufacturerPart: FRC1206P000 TS; Supplier Footprint: 1206; JLCPCB Part Class: Extended Part; Supplier: LCSC; ConvertToPcb: yes; FootprintName: R1206; Type: 厚膜电阻; Operating Temperature: -55℃~+155℃
footprint R1206
pins: 1, 2

## FX6-100P-0.8SV(71)
designator U?
额定电流:500mA;工作温度:-55℃~+85℃;; Manufacturer: HRS(广濑); 3D Model: 2760271e6f4b4f45910819c2043a6dc4聨0819f05c4eef4c71ace90d822a990e87; 3D Model Transform: 1881.886,224.409,0,0,0,0,-0.002,-0.004,-27.559; Current Rating: 500mA; Voltage Rating: 100V; AddInBom: yes; ModelName: CONN-SMD_100P-P0.80_FX6-100P-0.8SV71; Symbol: FX6-100P-0.8SV(71); Device: FX6-100P-0.8SV(71); LCSC Part Name: FX6-100P-0.8SV(71); Supplier Part: C5121467; Manufacturer Part: FX6-100P-0.8SV(71); Supplier Footprint: SMD-100P; JLCPCB Part Class: Extended Part; Datasheet: https://item.szlcsc.com/datasheet/FX6-100P-0.8SV(71)/5709403.html; Supplier: LCSC; Operating Temperature: -55℃~+85℃; ConvertToPcb: yes; FootprintName: CONN-SMD_100P-P0.80_FX6-100P-0.8SV71
footprint CONN-SMD_100P-P0.80_FX6-100P-0.8SV71
3D model CONN-SMD_100P-P0.80_FX6-100P-0.8SV71
pins: 1, 2, 3, 4, 5, 6, 7, 8, 9, 10, 11, 12, 13, 14, 15, 16, 17, 18, 19, 20, 21, 22, 23, 24, 25, 26, 27, 28, 29, 30, 31, 32, 33, 34, 35, 36, 37, 38, 39, 40, 41, 42, 43, 44, 45, 46, 47, 48, 49, 50, 51, 52, 53, 54, 55, 56, 57, 58, 59, 60, 61, 62, 63, 64, 65, 66, 67, 68, 69, 70, 71, 72, 73, 74, 75, 76, 77, 78, 79, 80, 81, 82, 83, 84, 85, 86, 87, 88, 89, 90, 91, 92, 93, 94, 95, 96, 97, 98, 99, 100

## GRM155C61E475ME15D
designator C?, comment 4.7uF
容值:4.7uF;精度:±20%;额定电压:25V;温度系数:-;; Manufacturer: muRata(村田); Symbol: GRM155C61E475ME15D; AddInBom: yes; ModelId: 36a51122f27c49738f86b3bfa98863e0聨0819f05c4eef4c71ace90d822a990e87; ModelName: C0402_L1.0-W0.5-H0.5; ModelTransform: 39.37,19.685,0,0,0,0,0,0,0; Tolerance: ±20%; Voltage Rating: 25V; Device: GRM155C61E475ME15D; LCSC Part Name: 4.7uF ±20% 25V; SupplierPart: C5718966; ManufacturerPart: GRM155C61E475ME15D; Supplier Footprint: 0402; JLCPCB Part Class: Extended Part; Datasheet: https://item.szlcsc.com/datasheet/GRM155C61E475ME15D/6643118.html; Supplier: LCSC; ConvertToPcb: yes; FootprintName: C0402; Value: 4.7uF; Temperature Coefficient: -
footprint C0402
pins: 1, 2

## HX SK12D07VG3
designator U?
电路结构:单刀双掷;安装方式:弯插;开关颜色:黑色;额定电流:300mA;额定电压:50V;工作寿命:8千次;; Manufacturer: hanxia(韩下); AddInBom: yes; ModelId: 951c2d8cae1a45b4bcf1723179613222聨0819f05c4eef4c71ace90d822a990e87; ModelName: SW-TH_SK12D07VG3; ModelTransform: 342.519,330.708,0,0,0,0,-0.591,-77.99,-118.11; Circuit: 单刀双掷; Actuator Style: 矩形柱状; Switch Height: 7.4mm; Actuator Color: 黑色; Current Rating: 300mA; Voltage Rating: 50V; Life: 8千次; Symbol: HX SK12D07VG3; Device: HX SK12D07VG3; LCSC Part Name: 3脚2两档位SK12D07VG3 1P2T卧式拨动开关,柄长3mm; SupplierPart: C5149832; ManufacturerPart: HX SK12D07VG3; Supplier Footprint: 弯插,8.7x4.7mm; JLCPCB Part Class: Extended Part; Datasheet: https://item.szlcsc.com/datasheet/HX%2520SK12D07VG3/5774346.html; Supplier: LCSC; ConvertToPcb: yes; FootprintName: SW-TH_SK12D07VG3; Termination Style: PC引脚; Length: 8.7mm; Width: 4.7mm; Mounting Type: 弯插; Operating Temperature: -25℃~+70℃
footprint SW-TH_SK12D07VG3
pins: 1, 2, 3, 4, 5

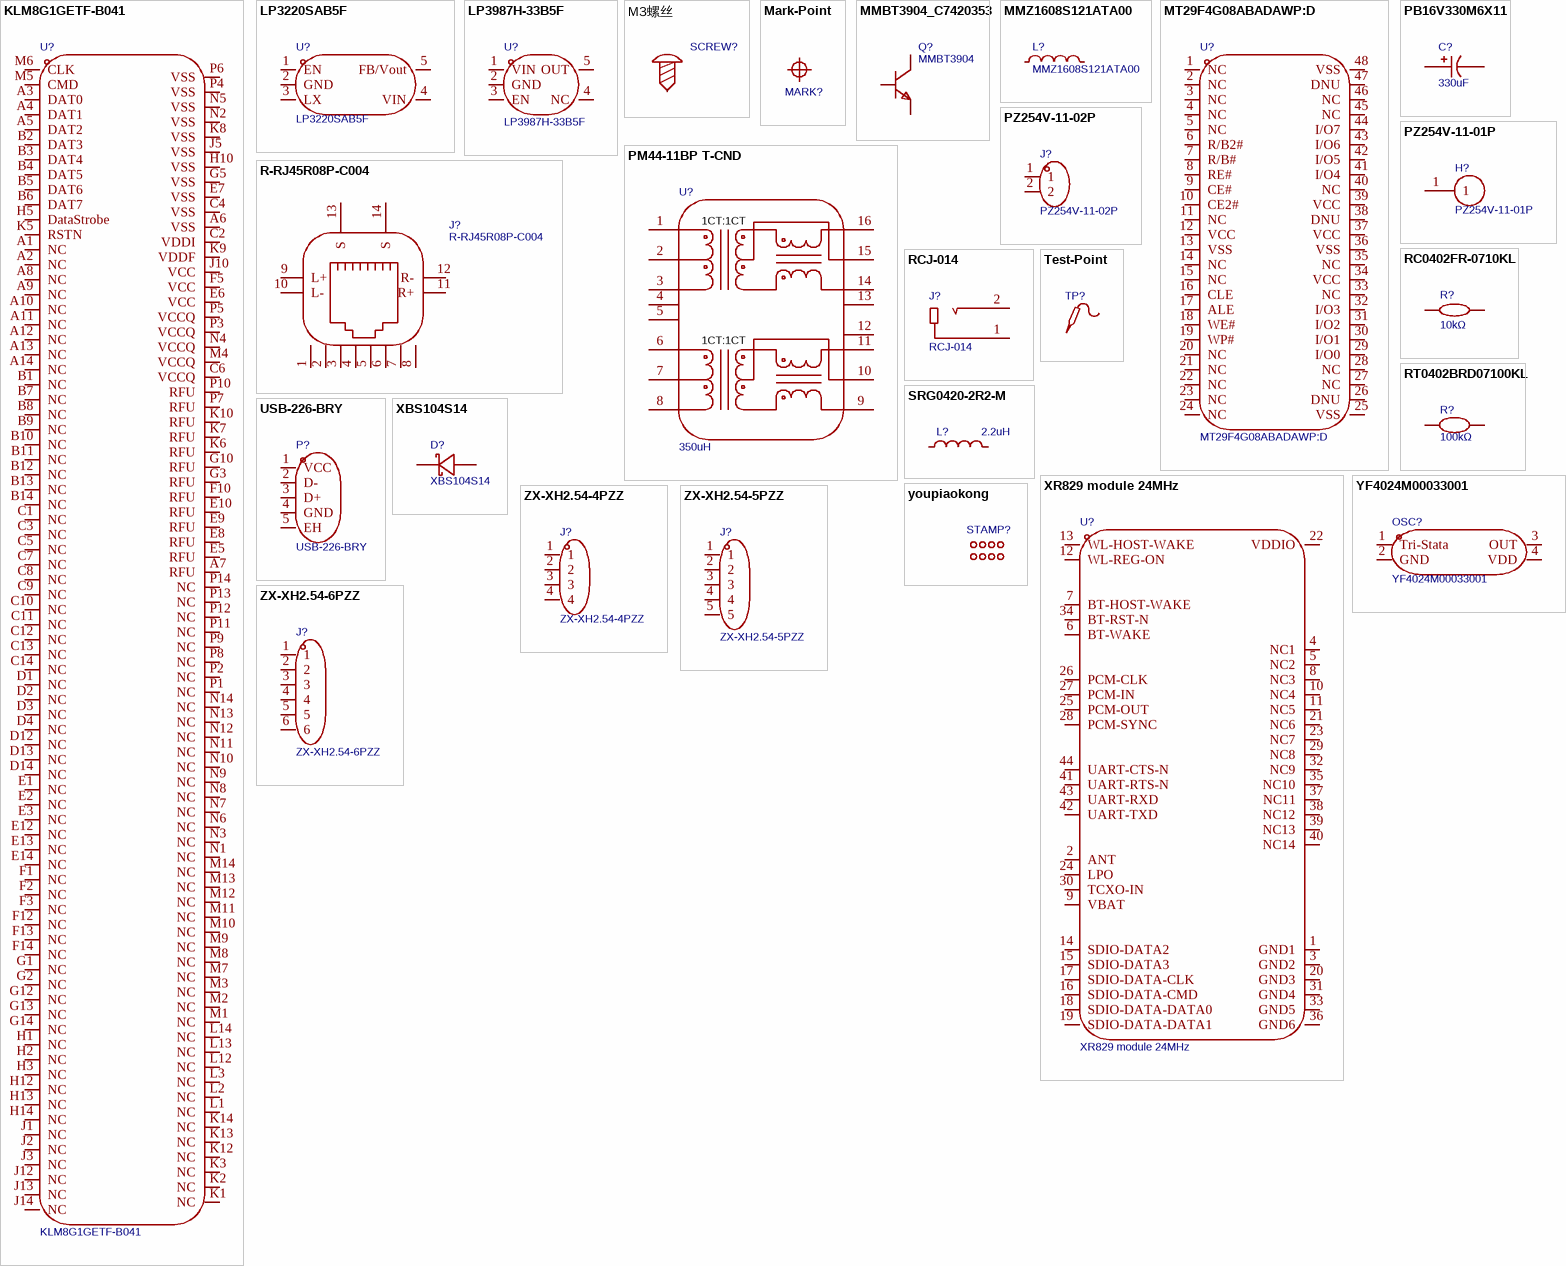
[diagram p1: symbols KLM8G1GETF-B041 to ZX-XH2.54-6PZZ]

## KLM8G1GETF-B041
designator U?
配置:-;接口类型:eMMC 5.1;存储容量:8GB;; Manufacturer: SAMSUNG(三星半导体); AddInBom: yes; ModelId: e295469cf8df408b9f13391ad06a16e8聨0819f05c4eef4c71ace90d822a990e87; ModelName: FBGA-153_L13.0-W11.5-H1.1-P0.50_KLMAG1JETD-B041; ModelTransform: 452.755,511.81,0,0,0,0,0,0,0; Memory Size: 8GB; Reading Speed in Sequence: 330MB/S; Writing Speed in Sequence: 50MB/S; NAND Operating Voltage (VCCF): 2.7V~3.6V; Controller Operating Voltage (VCCQ): 2.7V~3.6V；1.7V~1.95V; Symbol: KLM8G1GETF-B041; Device: KLM8G1GETF-B041; LCSC Part Name: eMMC 5.1 规格兼容; SupplierPart: C499918; ManufacturerPart: KLM8G1GETF-B041; Supplier Footprint: FBGA-153(11.5x13); JLCPCB Part Class: Extended Part; Datasheet: https://item.szlcsc.com/datasheet/KLM8G1GETF-B041/512098.html; Supplier: LCSC; ConvertToPcb: yes; FootprintName: FBGA-153_L13.0-W11.5-P0.50_KLMAG1JETD-B041; configuration: -; Interface: eMMC 5.1; Operating Temperature: -25℃~+85℃; NAND Stand-By Current: -; Controller Stand-By Current: -
footprint FBGA-153_L13.0-W11.5-P0.50_KLMAG1JETD-B041
pins: A1 NC, A2 NC, A3 DAT0, A4 DAT1, A5 DAT2, A6 VSS, A7 RFU, A8 NC, A9 NC, A10 NC, A11 NC, A12 NC, A13 NC, A14 NC, B1 NC, B2 DAT3, B3 DAT4, B4 DAT5, B5 DAT6, B6 DAT7, B7 NC, B8 NC, B9 NC, B10 NC, B11 NC, B12 NC, B13 NC, B14 NC, C1 NC, C2 VDDI, C3 NC, C4 VSS, C5 NC, C6 VCCQ, C7 NC, C8 NC, C9 NC, C10 NC, C11 NC, C12 NC, C13 NC, C14 NC, D1 NC, D2 NC, D3 NC, D4 NC, D12 NC, D13 NC, D14 NC, E1 NC, E2 NC, E3 NC, E5 RFU, E6 VCC, E7 VSS, E8 RFU, E9 RFU, E10 RFU, E12 NC, E13 NC, E14 NC, F1 NC, F2 NC, F3 NC, F5 VCC, F10 RFU, F12 NC, F13 NC, F14 NC, G1 NC, G2 NC, G3 RFU, G5 VSS, G10 RFU, G12 NC, G13 NC, G14 NC, H1 NC, H2 NC, H3 NC, H5 DataStrobe, H10 VSS, H12 NC, H13 NC, H14 NC, J1 NC, J2 NC, J3 NC, J5 VSS, J10 VCC, J12 NC, J13 NC, J14 NC, K1 NC, K2 NC, K3 NC, K5 RSTN, K6 RFU, K7 RFU, K8 VSS, K9 VDDF, K10 RFU, K12 NC, K13 NC, K14 NC, L1 NC, L2 NC, L3 NC, L12 NC, L13 NC, L14 NC, M1 NC, M2 NC, M3 NC, M4 VCCQ, M5 CMD, M6 CLK, M7 NC, M8 NC, M9 NC, M10 NC, M11 NC, M12 NC, M13 NC, M14 NC, N1 NC, N2 VSS, N3 NC, N4 VCCQ, N5 VSS, N6 NC, N7 NC, N8 NC, N9 NC, N10 NC, N11 NC, N12 NC, N13 NC, N14 NC, P1 NC, P2 NC, P3 VCCQ, P4 VSS, P5 VCCQ, P6 VSS, P7 RFU, P8 NC, P9 NC, P10 RFU, P11 NC, P12 NC, P13 NC, P14 NC

## LP3220SAB5F
designator U?
功能类型:降压型;工作电压:2.2V~5.5V;输出电压:610mV~5.5V;输出电流:1A;输出类型:可调;; Manufacturer: LOWPOWER(微源半导体); 3D Model: 0a2a1b8f50944f73965918ad6e5fe167聨0819f05c4eef4c71ace90d822a990e87; 3D Model Transform: 114.173,109.636,0,180,0,0,0,0,0; Function: 降压型; Output Current: 1A; Frequency - Switching: 1.5MHz; Synchronous Rectifier: 是; Number of Outputs: 1; Topology: 降压式; Quiescent Current: 70uA; Switch tube (built-in/external): 内置; Output Type: 可调; AddInBom: yes; ModelName: SOT-23-5_L2.9-W1.6-H1.1-LS2.8-P0.95; Symbol: LP3220SAB5F; Device: LP3220SAB5F; LCSC Part Name: 1.5MHz 1.0A 降压转换器; Supplier Part: C517212; Manufacturer Part: LP3220SAB5F; Supplier Footprint: SOT-23-5; JLCPCB Part Class: Extended Part; Datasheet: https://item.szlcsc.com/datasheet/LP3220SAB5F/533577.html; Supplier: LCSC; Voltage - Supply: 2.2V~5.5V; Output Voltage: 610mV~5.5V; Operating Temperature: -40℃~+85℃@(TA); ConvertToPcb: yes; FootprintName: SOT-23-5_L3.0-W1.7-P0.95-LS2.8-BR
footprint SOT-23-5_L3.0-W1.7-P0.95-LS2.8-BR
3D model SOT-23-5_L2.9-W1.6-H1.1-LS2.8-P0.95
pins: 1 EN, 2 GND, 3 LX, 4 VIN, 5 FB/Vout

## LP3987H-33B5F
designator U?
输出类型:固定;工作电压:6V;输出电压:3.3V;输出电流:600mA;电源纹波抑制比(PSRR):65dB@(1kHz);输出极性:正极;; Manufacturer: LOWPOWER(微源半导体); AddInBom: yes; ModelId: 0a2a1b8f50944f73965918ad6e5fe167聨0819f05c4eef4c71ace90d822a990e87; ModelName: SOT-23-5_L2.9-W1.6-H1.1-LS2.8-P0.95; ModelTransform: 118.60433,114.173,0,90,0,0,0.0005,0.0005,0; Output Type: 固定; Voltage - Supply: 6V; Output Voltage: 3.3V; Output Current: 600mA; Voltage Dropout: 480mV@(600mA); standby current: 130uA; Noise: 100uVrms; Output Configuration: 正极; Number of Outputs: 1; Symbol: LP3987H-33B5F; Device: LP3987H-33B5F; LCSC Part Name: 600mA，超低噪声、超快速CMOS低压差线性稳压器; SupplierPart: C517256; ManufacturerPart: LP3987H-33B5F; Supplier Footprint: SOT-23-5; JLCPCB Part Class: Extended Part; Datasheet: https://item.szlcsc.com/datasheet/LP3987H-33B5F/533621.html; Supplier: LCSC; ConvertToPcb: yes; FootprintName: SOT-23-5_L3.0-W1.7-P0.95-LS2.8-BL; Power Supply Rejection Ratio (PSRR): 65dB@(1kHz); Features: 带使能；过热保护；过流保护; Operating Temperature: -40℃~+125℃@(Tj)
footprint SOT-23-5_L3.0-W1.7-P0.95-LS2.8-BL
pins: 1 VIN, 2 GND, 3 EN, 4 NC, 5 OUT

## M3螺丝
designator SCREW?
Symbol: 螺丝孔; Device: M3螺丝; ConvertToPcb: yes; Supplier Footprint: 插件; AddInBom: yes; FootprintName: SIP-1A
footprint SIP-1A
pins: 1

## Mark-Point
designator MARK?
Mark点; Symbol: Mark-Point; AddInBom: no; ConvertToPcb: yes; Device: Mark-Point; FootprintName: Mark-Point-1mm
footprint Mark-Point-1mm
pins: 1

## MMBT3904_C7420353
designator Q?, comment MMBT3904
晶体管类型:NPN;集电极电流(Ic):200mA;集射极击穿电压(Vceo):40V;耗散功率(Pd):200mW;直流电流增益(hFE):100@10mA,1.0V;; Manufacturer: R+O(宏嘉诚); Symbol: MMBT3904_C7420353; 3D Model: c62791f0466c4ae2a892c056b845b0ca聨0819f05c4eef4c71ace90d822a990e87; 3D Model Transform: 98.425,114.173,0,180,0,0,0.0005,-0.0005,0; type: NPN; Current - Collector(Ic): 200mA; Collector - Emitter Voltage VCEO: 40V; Pd - Power Dissipation: 200mW; Transition frequency(fT): 300MHz; Current - Collector Cutoff: 100nA; Vce Saturation(VCE(sat)): 300mV; Emitter-Base Voltage(Vebo): 6V; AddInBom: yes; ModelName: SOT-23-3P_L2.9-W1.3-H1.0-LS2.4-P0.95; Device: MMBT3904_C7420353; LCSC Part Name: hFE:100-300，丝印:1AM NPN 电流:200mA 电压:40V; Supplier Part: C7420353; Manufacturer Part: MMBT3904; Supplier Footprint: SOT-23; JLCPCB Part Class: Extended Part; Datasheet: https://item.szlcsc.com/datasheet/MMBT3904/8397175.html; Supplier: LCSC; DC Current Gain: 100@10mA,1.0V; Operating Temperature: -55℃~+150℃; ConvertToPcb: yes; FootprintName: SOT-23-3_L2.9-W1.3-P1.90-LS2.4-BR
footprint SOT-23-3_L2.9-W1.3-P1.90-LS2.4-BR
3D model SOT-23-3P_L2.9-W1.3-H1.0-LS2.4-P0.95
pins: 1 B, 2 E, 3 C

## MMZ1608S121ATA00
designator L?
阻抗@频率:120Ω@100MHz;误差:±25%;直流电阻(DCR):200mΩ;; Manufacturer: TDK; AddInBom: yes; ModelId: 2bc5ec593d464d6ba9807aec0b5673c2聨0819f05c4eef4c71ace90d822a990e87; ModelName: L0603_L1.6-W0.8-H0.5_BEAD; ModelTransform: 62.992,31.496,0,180,0,0,0.094,0.629,0; Tolerance: ±25%; DC Resistance(DCR): 200mΩ; Current Rating: 500mA; Number of Circuits: 1; Symbol: MMZ1608S121ATA00; Device: MMZ1608S121ATA00; LCSC Part Name: 单路 0603磁珠 阻抗120Ω@100MHz; SupplierPart: C136223; ManufacturerPart: MMZ1608S121ATA00; Supplier Footprint: 0603; JLCPCB Part Class: Extended Part; Datasheet: https://item.szlcsc.com/datasheet/MMZ1608S121ATA00/147538.html; Supplier: LCSC; ConvertToPcb: yes; FootprintName: L0603; Impedance @ Frequency: 120Ω@100MHz; Operating Temperature: -55℃~+125℃
footprint L0603
pins: 1, 2

## MT29F4G08ABADAWP:D
designator U?
存储容量:4Gbit;时钟频率(fc):-;工作电压:2.7V~3.6V;; Manufacturer: micron(镁光); AddInBom: yes; ModelId: 84317263936c4cfc959f23406aa8adae聨0819f05c4eef4c71ace90d822a990e87; ModelName: TSOP-48_L12-W18.4-H1.0-LS20.0-P0.50; ModelTransform: 787.89433,472.44,0,0,0,0,0,0,0; Memory Size: 4Gbit; Interface: Parallel; Write Cycle Time(tWC): 20ns; Page Program time (TPP): 200us; Block Erase Time(tBE): 700us; Data Retention - TDR (Year): 10年; Program / Erase Cycles: 10万次; Symbol: MT29F4G08ABADAWP:D; Device: MT29F4G08ABADAWP:D; LCSC Part Name: MT29F4G08ABADAWP:D; SupplierPart: C78135; ManufacturerPart: MT29F4G08ABADAWP:D; Supplier Footprint: TSOPI-48; JLCPCB Part Class: Extended Part; Supplier: LCSC; ConvertToPcb: yes; FootprintName: TSOP-48_L18.5-W12.2-P0.50-LS20.0-TL; Clock Frequency: -; Voltage - Supply: 2.7V~3.6V; Operating Temperature: 0℃~+70℃; Standby Supply Current: -
footprint TSOP-48_L18.5-W12.2-P0.50-LS20.0-TL
pins: 1 NC, 2 NC, 3 NC, 4 NC, 5 NC, 6 R/B2#, 7 R/B#, 8 RE#, 9 CE#, 10 CE2#, 11 NC, 12 VCC, 13 VSS, 14 NC, 15 NC, 16 CLE, 17 ALE, 18 WE#, 19 WP#, 20 NC, 21 NC, 22 NC, 23 NC, 24 NC, 25 VSS, 26 DNU, 27 NC, 28 NC, 29 I/O0, 30 I/O1, 31 I/O2, 32 I/O3, 33 NC, 34 VCC, 35 NC, 36 VSS, 37 VCC, 38 DNU, 39 VCC, 40 NC, 41 I/O4, 42 I/O5, 43 I/O6, 44 I/O7, 45 NC, 46 NC, 47 DNU, 48 VSS

## PB16V330M6X11
designator C?, comment 330uF
容值:330uF;精度:±20%;额定电压:16V;纹波电流:4.1A@100kHz;等效串联电阻(ESR):16mΩ@100kHz;类型:聚合物;; Manufacturer: JIERR(捷而瑞); Symbol: PB16V330M6X11; AddInBom: yes; Tolerance: ±20%; Voltage Rating: 16V; Type: 聚合物; Pin Spacing: 2.5mm; Lifetime: 5000hrs@105℃; Device: PB16V330M6X11; LCSC Part Name: 330uF ±20% 16V; SupplierPart: C51934161; ManufacturerPart: PB16V330M6X11; Supplier Footprint: 插件,D6.3xL11mm; JLCPCB Part Class: Extended Part; Datasheet: https://item.szlcsc.com/datasheet/PB16V330M6X11/54649573.html; Supplier: LCSC; ConvertToPcb: yes; FootprintName: CAP-TH_BD6.3-P2.50-D0.6-FD-3; Value: 330uF; Ripple Current: 4.1A@100kHz; Equivalent Series Resistance(ESR): 16mΩ@100kHz; Diameter: 6.3mm; Height - Seated (Max): 11mm; Operating Temperature: -55℃~+105℃
footprint CAP-TH_BD6.3-P2.50-D0.6-FD-3
pins: 1, 2

## PM44-11BP T-CND
designator U?, comment 350uH
匝数比:1CT:1CT;速率:10/100M;功能(POE或非POE):POE;; Manufacturer: CND-tek(磁联达); Symbol: PM44-11BP T; Device: PM44-11BP T-CND; 3D Model: b41a16acba62412c8212b7f795f1fce3聨0819f05c4eef4c71ace90d822a990e87; 3D Model Transform: 499.999,370.078,0,0,0,0,0,0,0; Function: POE; Isolation Voltage(Vrms): 1.5kV; AddInBom: yes; ModelName: XFMR-SMD_16P-L12.7-W7.1-P1.27-LS9.4-BL; LCSC Part Name: 10/100M单端口变压器模块; Supplier Part: C49023303; Manufacturer Part: PM44-11BP T-CND; Supplier Footprint: SMD-16P,12.7x7mm; JLCPCB Part Class: Extended Part; Datasheet: https://item.szlcsc.com/datasheet/PM44-11BP%2520T-CND/51383028.html; Supplier: LCSC; Turns Ratio: 1CT:1CT; rate: 10/100M; Value: 350uH; operating temperature: 0℃~+70℃; ConvertToPcb: yes; FootprintName: XFMR-SMD_16P-L12.7-W7.1-P1.27-LS9.4-BL
footprint XFMR-SMD_16P-L12.7-W7.1-P1.27-LS9.4-BL
3D model XFMR-SMD_16P-L12.7-W7.1-P1.27-LS9.4-BL
pins: 1, 2, 3, 4, 5, 6, 7, 8, 9, 10, 11, 12, 13, 14, 15, 16

## PZ254V-11-01P
designator H?
插针结构:1x1P;间距:2.54mm;行距:-;圆针/方针:方针;安装方式:直插;排数:单排;总PIN位数:1P;额定电流:3A;额定电压:250V;配合针长度:6mm;塑高:2.5mm;端接针长度:3mm;触头材质:黄铜;触头镀层:-;工作温度:-40℃~+105℃;颜色:黑色;; Manufacturer: XFCN(兴飞); 3D Model: efa57846279b44bfa0a28253a2c74e33聨0819f05c4eef4c71ace90d822a990e87; 3D Model Transform: 100,100,0,0,0,0,0,0,-118.11; Pin Structure: 1x1P; Pitch: 2.54mm; Circluar Pins/Square Pins: 方针; Current Rating: 3A; Voltage Rating (Max): 250V; AddInBom: yes; ModelName: HDR2.54-M-LI-1X1P; Symbol: PZ254V-11-01P; Device: PZ254V-11-01P; LCSC Part Name: 1x1P 间距:2.54mm 方针 直插; Supplier Part: C492400; Manufacturer Part: PZ254V-11-01P; Supplier Footprint: 插件,P=2.54mm; JLCPCB Part Class: Extended Part; Datasheet: https://item.szlcsc.com/datasheet/PZ254V-11-01P/502956.html; Supplier: LCSC; Row Spacing: -; Mounting Type: 直插; Number of Rows: 单排; Number of Pins: 1P; Length of Mating Pin: 6mm; Insulation Height: 2.5mm; Length of End Connection Pin: 3mm; Contact Material: 黄铜; Contact Plating: -; Operating Temperature: -40℃~+105℃; Color: 黑色; ConvertToPcb: yes; FootprintName: HDR-TH_1P-P2.54-V-M
footprint HDR-TH_1P-P2.54-V-M
3D model HDR2.54-M-LI-1X1P
pins: 1

## PZ254V-11-02P
designator J?
插针结构:1x2P;间距:2.54mm;行距:-;圆针/方针:方针;安装方式:直插;排数:单排;总PIN位数:2P;额定电流:3A;额定电压:250V;配合针长度:6mm;塑高:2.5mm;端接针长度:3mm;触头材质:黄铜;触头镀层:-;工作温度:-40℃~+105℃;颜色:黑色;; Manufacturer: XFCN(兴飞); AddInBom: yes; ModelId: e35305ec3aa84b66b849f914b715e73f聨0819f05c4eef4c71ace90d822a990e87; ModelName: HDR2.54-M-LI-1X2P; ModelTransform: 200,100,0,0,0,0,0,0,-118.11; Pin Structure: 1x2P; Pitch: 2.54mm; Circluar Pins/Square Pins: 方针; Current Rating: 3A; Voltage Rating (Max): 250V; Symbol: PZ254V-11-02P; Device: PZ254V-11-02P; LCSC Part Name: 1x2P 间距:2.54mm 方针 直插; SupplierPart: C492401; ManufacturerPart: PZ254V-11-02P; Supplier Footprint: 插件,P=2.54mm; JLCPCB Part Class: Extended Part; Datasheet: https://item.szlcsc.com/datasheet/PZ254V-11-02P/502957.html; Supplier: LCSC; ConvertToPcb: yes; FootprintName: HDR-TH_2P-P2.54-V-M; Row Spacing: -; Mounting Type: 直插; Number of Rows: 单排; Number of Pins: 2P; Length of Mating Pin: 6mm; Insulation Height: 2.5mm; Length of End Connection Pin: 3mm; Contact Material: 黄铜; Contact Plating: -; Operating Temperature: -40℃~+105℃; Color: 黑色
footprint HDR-TH_2P-P2.54-V-M
pins: 1, 2

## R-RJ45R08P-C004
designator J?
连接器类型:RJ45插座;安装方式:弯插;端口数量:1;LED:带LED;屏蔽:有屏蔽;等级:-;触头材质:磷青铜;触头镀层:金;工作温度:0℃~+70℃;; Manufacturer: Ckmtw(灿科盟); AddInBom: yes; ModelId: 7d68f79fef814152a52c058157038b8b聨0819f05c4eef4c71ace90d822a990e87; ModelName: RJ45-TH_L16.3-W15.8-H13.1; ModelTransform: 647.6365,631.889,0,0,0,0,0,-129.921,-137.795; Connector Type: RJ45插座; Number of Ports: 1; LED: 带LED; Shielding: 有屏蔽; Supplementary Features: 有弹片; Symbol: R-RJ45R08P-C004; Device: R-RJ45R08P-C004; LCSC Part Name: 弯插 带LED; SupplierPart: C386759; ManufacturerPart: R-RJ45R08P-C004; Supplier Footprint: 弯插; JLCPCB Part Class: Extended Part; Datasheet: https://item.szlcsc.com/datasheet/R-RJ45R08P-C004/360866.html; Supplier: LCSC; ConvertToPcb: yes; FootprintName: RJ45-TH_R-RJ45R08P-C004; Mounting Type: 弯插; Ratings: -; Contact Material: 磷青铜; Contact Plating: 金; Operating Temperature: 0℃~+70℃
footprint RJ45-TH_R-RJ45R08P-C004
pins: 1, 2, 3, 4, 5, 6, 7, 8, 9 L+, 10 L-, 11 R+, 12 R-, 13 S, 14 S

## RC0402FR-0710KL
designator R?, comment 10kΩ
电阻类型:厚膜电阻;阻值:10kΩ;精度:±1%;功率:62.5mW;工作电压:50V;温度系数:±100ppm/℃;; Manufacturer: YAGEO(国巨); Symbol: RC0402FR-0710KL; AddInBom: yes; ModelId: 98c88bc2b9094f218f3a3e30a7012738聨0819f05c4eef4c71ace90d822a990e87; ModelName: R0402_L1.0-W0.5-H0.4; ModelTransform: 39.37,19.685,0,0,0,0,0,0,0; Tolerance: ±1%; Power(Watts): 62.5mW; Voltage-Supply(Max): 50V; Device: RC0402FR-0710KL; LCSC Part Name: 厚膜电阻 10kΩ ±1% 62.5mW; SupplierPart: C60490; ManufacturerPart: RC0402FR-0710KL; Supplier Footprint: 0402; JLCPCB Part Class: Extended Part; Datasheet: https://item.szlcsc.com/datasheet/RC0402FR-0710KL/61542.html; Supplier: LCSC; ConvertToPcb: yes; FootprintName: R0402; Type: 厚膜电阻; Value: 10kΩ; Temperature Coefficient: ±100ppm/℃; Operating Temperature: -55℃~+155℃
footprint R0402
pins: 1, 2

## RCJ-014
designator J?
RCA插孔; Manufacturer: CUI; AddInBom: yes; ModelId: 253d1bbf7df34a00af0459c95b34318f聨0819f05c4eef4c71ace90d822a990e87; ModelName: CONN-TH_RCJ-013; ModelTransform: 570.865,456.692,0,0,0,0,-147.047,0,-177.165; Symbol: RCJ-014; Device: RCJ-014; LCSC Part Name: RCA插孔; SupplierPart: C4991844; ManufacturerPart: RCJ-014; Supplier Footprint: -; JLCPCB Part Class: Extended Part; Datasheet: https://item.szlcsc.com/datasheet/RCJ-014/5566715.html; Supplier: LCSC; ConvertToPcb: yes; FootprintName: CONN-TH_RCJ-013
footprint CONN-TH_RCJ-013
pins: 1, 2

## RT0402BRD07100KL
designator R?, comment 100kΩ
电阻类型:薄膜电阻;阻值:100kΩ;精度:±0.1%;功率:62.5mW;最大工作电压:50V;温度系数:±25ppm/℃;; Manufacturer: YAGEO(国巨); Symbol: RT0402BRD07100KL; AddInBom: yes; ModelId: 98c88bc2b9094f218f3a3e30a7012738聨0819f05c4eef4c71ace90d822a990e87; ModelName: R0402_L1.0-W0.5-H0.4; ModelTransform: 39.37,19.685,0,0,0,0,0,0,0; Tolerance: ±0.1%; Power(Watts): 62.5mW; Overload Voltage (Max): 50V; Device: RT0402BRD07100KL; LCSC Part Name: 薄膜电阻 100kΩ ±0.1% 62.5mW; SupplierPart: C852472; ManufacturerPart: RT0402BRD07100KL; Supplier Footprint: 0402; JLCPCB Part Class: Extended Part; Datasheet: https://atta.szlcsc.com/upload/public/pdf/source/20210326/C852472_6283D268A9C33EA67274729CC55E28B1.pdf; Supplier: LCSC; ConvertToPcb: yes; FootprintName: R0402; Type: 薄膜电阻; Value: 100kΩ; Temperature Coefficient: ±25ppm/℃; Operating Temperature Range: -55℃~+155℃
footprint R0402
pins: 1, 2

## SRG0420-2R2-M
designator L?, comment 2.2uH
电感值:2.2uH;精度:±20%;额定电流:4A;饱和电流(Isat):5A;类型:一体成型电感;; Manufacturer: JIERR(捷而瑞); Symbol: SRG0420-2R2-M; Tolerance: ±20%; Current Rating: 4A; Current - Saturation(Isat): 5A; DC Resistance(DCR): 49mΩ; Type: 一体成型电感; AddInBom: yes; Device: SRG0420-2R2-M; LCSC Part Name: 2.2μH ±20% 5A; Supplier Part: C53462916; Manufacturer Part: SRG0420-2R2-M; Supplier Footprint: SMD,4.6x4.1mm; JLCPCB Part Class: Extended Part; Datasheet: https://item.szlcsc.com/datasheet/SRG0420-2R2-M/56628161.html; Supplier: LCSC; Value: 2.2uH; ConvertToPcb: yes; FootprintName: IND-SMD_L4.6-W4.1_MHCI04015
footprint IND-SMD_L4.6-W4.1_MHCI04015
pins: 1, 2

## Test-Point
designator TP?
Test Point 测试点; Symbol: Test-Point; AddInBom: yes; Device: Test-Point; ConvertToPcb: yes; FootprintName: Test-Point-0.5mm
footprint Test-Point-0.5mm
pins: 1

## USB-226-BRY
designator P?
连接器类型:Type-A;协议标准:USB 2.0;公母:母;安装方式:侧插;触点数量:4P;端口数量:1;额定电流 - 电源:1.5A;工作温度:-20℃~+70℃;; Manufacturer: XUNPU(讯普); AddInBom: yes; ModelId: 688292054bf045d3989335cf0c7d2341聨0819f05c4eef4c71ace90d822a990e87; ModelName: USB-A-TH_USB-226-BRY; ModelTransform: 279.527,771.652,0,0,0,0,0.001,-220.231,-157.48; Connector Type: Type-A; Protocol Standard: USB 2.0; Gender: 母; Number of Contacts: 4P; Number of Ports: 1; Current Rating-Power: 1.5A; Voltage Rating: 30V; Detection color: 白色; Symbol: USB-226-BRY; Device: USB-226-BRY; LCSC Part Name: Type-A 母 侧插; SupplierPart: C720523; ManufacturerPart: USB-226-BRY; Supplier Footprint: 插件; JLCPCB Part Class: Extended Part; Datasheet: https://item.szlcsc.com/datasheet/USB-226-BRY/763530.html; Supplier: LCSC; ConvertToPcb: yes; FootprintName: USB-A-TH_USB-226-BRY; Mounting Type: 侧插; Length: 19.4mm; Operating Temperature: -20℃~+70℃
footprint USB-A-TH_USB-226-BRY
pins: 1 VCC, 2 D-, 3 D+, 4 GND, 5 EH

## XBS104S14
designator D?
二极管配置:独立式;正向压降(Vf):490mV@1A;直流反向耐压(Vr):40V;整流电流:1A;; Manufacturer: Slkor(萨科微); 3D Model: b8c4b3388b3d4c198b22b876116f592b聨0819f05c4eef4c71ace90d822a990e87; 3D Model Transform: 145.669,70.866,0,0,0,0,0,0,0; Diode Configuration: 独立式; Voltage - DC Reverse(Vr): 40V; Current - Rectified: 1A; Reverse Leakage Current (Ir): 4uA@40V; Non-Repetitive Peak Forward Surge Current: 10A; AddInBom: yes; ModelName: SOD-123FL_L2.8-W1.8-LS3.7-RD; Symbol: XBS104S14; Device: XBS104S14; LCSC Part Name: 电压:40V 电流:1A; Supplier Part: C5185949; Manufacturer Part: XBS104S14; Supplier Footprint: SOD-123FL; JLCPCB Part Class: Extended Part; Datasheet: https://item.szlcsc.com/datasheet/XBS104S14/5856509.html; Supplier: LCSC; Voltage - Forward(Vf@If): 490mV@1A; ConvertToPcb: yes; FootprintName: SOD-123FL_L2.8-W1.8-LS3.7-RD
footprint SOD-123FL_L2.8-W1.8-LS3.7-RD
3D model SOD-123FL_L2.8-W1.8-LS3.7-RD
pins: 1 K, 2 A

## XR829 module 24MHz
designator U?
Manufacturer: x-powers; AddInBom: yes; ModelId: 04a79f9e2d454222904379cc9ddf09c8聨0819f05c4eef4c71ace90d822a990e87; ModelName: WIRELM-SMD_XR829-MODULE-24MHZ; ModelTransform: 472.44,472.44,0,0,0,0,-0.004,0,0; Symbol: XR829 MODULE 24MHZ; Device: XR829 module 24MHz; FootprintName: WIRELM-SMD_XR829-MODULE-24MHZ; LCSC Part Name: XR829 module 24MHz; SupplierPart: C5365288; ManufacturerPart: XR829 module 24MHz; Supplier Footprint: SMD,12x12mm; JLCPCB Part Class: Extended Part; Datasheet: https://item.szlcsc.com/datasheet/XR829%2520module%252024MHz/6196369.html; Supplier: LCSC; ConvertToPcb: yes
footprint WIRELM-SMD_XR829-MODULE-24MHZ
pins: 1 GND1, 2 ANT, 3 GND2, 4 NC1, 5 NC2, 6 BT-WAKE, 7 BT-HOST-WAKE, 8 NC3, 9 VBAT, 10 NC4, 11 NC5, 12 WL-REG-ON, 13 WL-HOST-WAKE, 14 SDIO-DATA2, 15 SDIO-DATA3, 16 SDIO-DATA-CMD, 17 SDIO-DATA-CLK, 18 SDIO-DATA-DATA0, 19 SDIO-DATA-DATA1, 20 GND3, 21 NC6, 22 VDDIO, 23 NC7, 24 LPO, 25 PCM-OUT, 26 PCM-CLK, 27 PCM-IN, 28 PCM-SYNC, 29 NC8, 30 TCXO-IN, 31 GND4, 32 NC9, 33 GND5, 34 BT-RST-N, 35 NC10, 36 GND6, 37 NC11, 38 NC12, 39 NC13, 40 NC14, 41 UART-RTS-N, 42 UART-TXD, 43 UART-RXD, 44 UART-CTS-N